# Altium footprint library 松乐五脚继电器.PcbLib: 1 footprints
Each footprint in its own frame and in the unit in brackets; x right, y up, seen from the top. Pads: shape width x height; smd on the part's side, far side on the other; paste and mask are expansions set on the pad; w line width, h text height; cw(c..) or ccw(c..) is an arc to the next point about the centre after c.
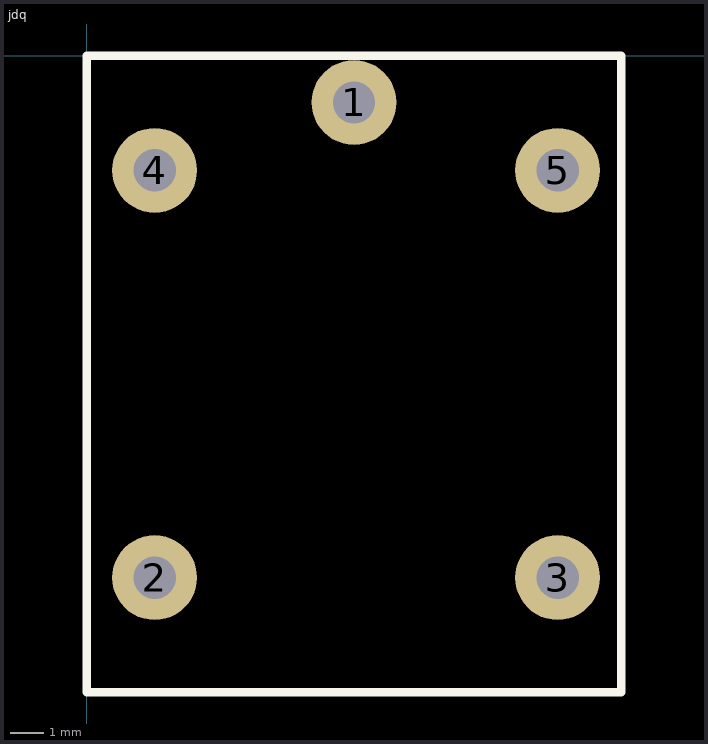
[diagram p0: the footprint, top view; thin cyan lines are the x and y axes]

## jdq [mil]
pads (5):
  round 100 hole 50: 1(315,-55) 2(80,-615) 3(555,-615) 4(80,-135) 5(555,-135)
Top Overlay:
  lines w10: 0,-750 0,0 630,0 630,-750 0,-750